# EAGLE library part TEENSY_3.2 (library HyTechDevices)
Teensy 3.2 Datasheet <https://www.pjrc.com/store/teensy32.html> Requires ordering of: 2: 14 pin, 0.1" pitch female headers
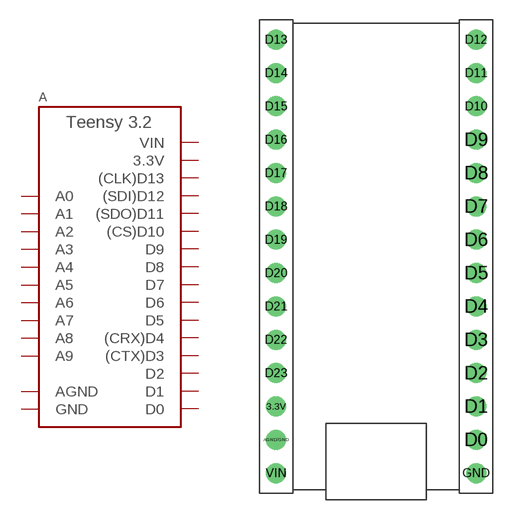
[diagram p30: symbol with the pads of TEENSY_SHORT; footprint TEENSY_SHORT]

Designator prefix A

## TEENSY_3.2 (TEENSY: 3.2)  [TEENSY_SHORT]
3.3V  3.3V  pwr
AGND/GND  AGND  pwr
D0  D0
D1  D1
D2  D2
D3  (CTX)D3
D4  (CRX)D4
D5  D5
D6  D6
D7  D7
D8  D8
D9  D9
D10  (CS)D10
D11  (SDO)D11
D12  (SDI)D12
D13  (CLK)D13
D14  A0
D15  A1
D16  A2
D17  A3
D18  A4
D19  A5
D20  A6
D21  A7
D22  A8
D23  A9
GND  GND  pwr
VIN  VIN  pwr

## Footprint TEENSY_SHORT (pad centres in mm)
Teensy 3.2/4.0 Footprint Teensy 3.2 <https://www.pjrc.com/store/teensy32.html> Teensy 4.0 <https://www.pjrc.com/store/teensy40.html> Headers <https://media.digikey.com/pdf/Data%20Sheets/Sullins%20PDFs/Female_Headers.100_DS.pdf>
drill 1.016: 3.3V 0,5.08; AGND/GND 0,2.54; D0 15.24,2.54; D1 15.24,5.08; D2 15.24,7.62; D3 15.24,10.16; D4 15.24,12.7; D5 15.24,15.24; D6 15.24,17.78; D7 15.24,20.32; D8 15.24,22.86; D9 15.24,25.4; D10 15.24,27.94; D11 15.24,30.48; D12 15.24,33.02; D13 0,33.02; D14 0,30.48; D15 0,27.94; D16 0,25.4; D17 0,22.86; D18 0,20.32; D19 0,17.78; D20 0,15.24; D21 0,12.7; D22 0,10.16; D23 0,7.62; GND 15.24,0; VIN 0,0